# EAGLE library part PINHD-1X10 (library dpx-pinhead+)
PIN HEADER
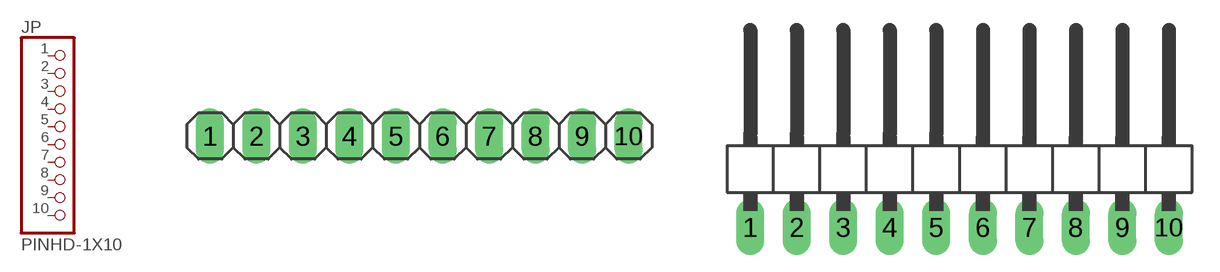
[diagram p14: symbol with the pads of 1X10; footprints 1X10, 1X10/90]

Designator prefix JP

## PINHD-1X10  [1X10]
1  1  pas
2  2  pas
3  3  pas
4  4  pas
5  5  pas
6  6  pas
7  7  pas
8  8  pas
9  9  pas
10  10  pas

## PINHD-1X10/90  [1X10/90]
Pads as for 1X10

## PINHD-1X101X10_SMT  [1X10_SMT]
Pads as for 1X10

## Footprint 1X10 (pad centres in mm)
PIN HEADER
drill 1.016 long: 1 -11.43,0; 2 -8.89,0; 3 -6.35,0; 4 -3.81,0; 5 -1.27,0; 6 1.27,0; 7 3.81,0; 8 6.35,0; 9 8.89,0; 10 11.43,0

## Footprint 1X10/90 (pad centres in mm)
PIN HEADER
drill 1.016 long: 1 -11.43,-3.81; 2 -8.89,-3.81; 3 -6.35,-3.81; 4 -3.81,-3.81; 5 -1.27,-3.81; 6 1.27,-3.81; 7 3.81,-3.81; 8 6.35,-3.81; 9 8.89,-3.81; 10 11.43,-3.81

## Footprint 1X10_SMT (pad centres in mm)
smd 1 x 2.5: 1 -11.43,1.52; 2 -8.89,-1.52; 3 -6.35,1.52; 4 -3.81,-1.52; 5 -1.27,1.52; 6 1.27,-1.52; 7 3.81,1.52; 8 6.35,-1.52; 9 8.89,1.52; 10 11.43,-1.52